# Altium footprint library PcbLib1.PcbLib: 4 footprints
Each footprint in its own frame and in the unit in brackets; x right, y up, seen from the top. Pads: shape width x height; smd on the part's side, far side on the other; paste and mask are expansions set on the pad; w line width, h text height; cw(c..) or ccw(c..) is an arc to the next point about the centre after c.
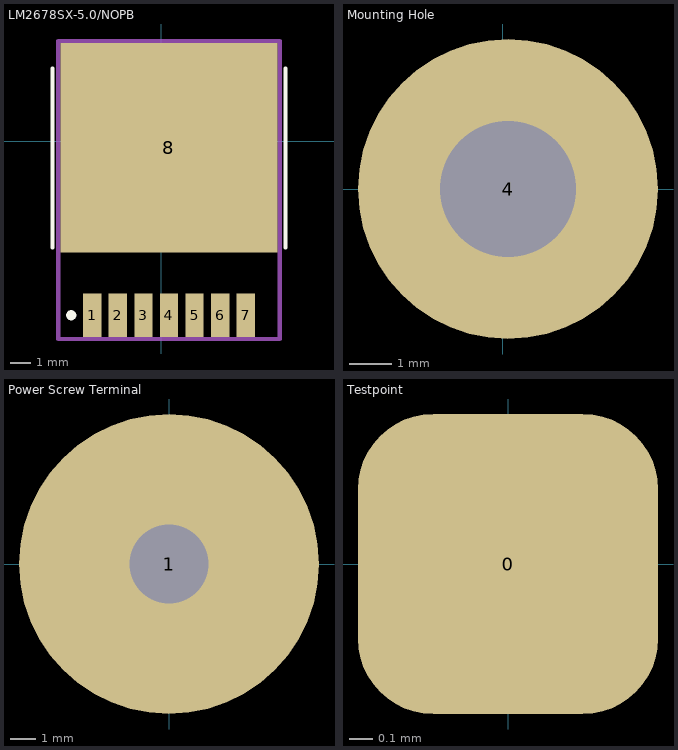
[diagram p0: the footprints below, top view; thin cyan lines are the x and y axes]

## LM2678SX-5.0/NOPB [mm]
pads (8):
  rect 0.91x2.16 smd paste+0 mask+0: 1(-3.429,-8.635) 2(-2.159,-8.635) 3(-0.889,-8.635) 4(0.381,-8.635) 5(1.651,-8.635) 6(2.921,-8.635) 7(4.191,-8.635)
  rect 10.8x10.41 smd paste+0 mask+0: 8(0.381,-0.316)
Top Overlay:
  circle w0.25: c-4.474,-8.635 r0.125
  lines w0.2: -5.394,-5.273 -5.394,3.617 ; 6.156,-5.273 6.156,3.617
Top Assembly:
  lines w0.2: -5.119,-9.815 -5.119,4.989 5.881,4.989 5.881,-9.815 -5.119,-9.815
  text ".Designator" at 0.381,-2.225 h1
Top 3D Body:
  lines w0.2: -4.824,-5.273 -4.824,3.617 5.586,3.617 5.586,-5.273 -4.824,-5.273
Top Courtyard:
  lines w0.2: -5.119,-9.815 -5.119,4.989 5.881,4.989 5.881,-9.815 -5.119,-9.815
Top Component Center:
  lines w0.1: -0.119,-2.413 0.881,-2.413 ; 0.381,-2.913 0.381,-1.913
3D body "IC_Texas_Instruments_LM2678SX-5_0-NOPB_eec.STEP": height 0.25, standoff 0, extent -5.119,-9.815 5.881,4.989

## Mounting Hole [mm]
pads (1):
  round 7 hole 3.175: 4(0.127,0)

## Power Screw Terminal [mm]
pads (1):
  round 12 hole 3.175: 1(0,0)

## Testpoint [mil]
pads (1):
  rrect50% 50x50 smd: 0(0,0)